# EAGLE library part MS5803 (library bschulz)
MS5803 - Minature Media Compatible Pressure Sensor Characteristics: Vcc: 1.8V ~ 3.6V IQ: 1μA (0.15μA standby) Pressure Range: 10 ~ 1300 mBar (01BA model) Pressure Resolution: 0.0012 mBar, max (01BA model) Pressure Accuracy: relative ±1.5 mBar, abs ± 1 mBar Temperature Resolution: 0.01°C Temperature Accuracy: 0.8°C Operating Temperature: -40°C to 85°C Digikey: 223-1623-5-ND (01BA) <https://www.digikey.com/product-detail/en/te-connectivity-measurement-specialties/MS580301BA01-00/223-1623-5-ND/5277628> 223-1624-5-ND (02BA) <https://www.digikey.com/product-detail/en/te-connectivity-measurement-specialties/MS580302BA01-00/223-1624-5-ND/5277629> 223-1625-5-ND (05BA) <https://www.digikey.com/product-detail/en/te-connectivity-measurement-specialties/MS580305BA01-00/223-1625-5-ND/5277630>
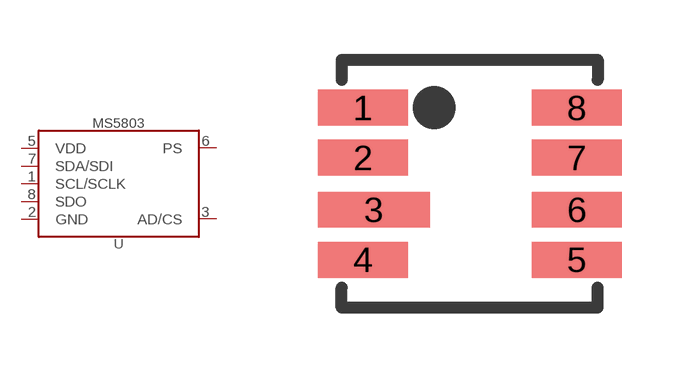
[diagram p110: symbol with the pads of MS5803; footprint MS5803]

Designator prefix U

## MS5803 (MF: Sparkfun; PROD_ID: IC-12111), MS580301BA (DIGIKEY: 223-1623-5-ND; MF: TE Connectivity; MPN: MS580301BA01-00), MS580302BA (DIGIKEY: 223-1624-5-ND; MF: TE Connectivity; MPN: MS580302BA01-00), MS580305BA (DIGIKEY: 223-1625-5-ND; MF: TE Connectivity; MPN: MS580305BA01-00)  [MS5803]
1  SCL/SCLK  in
2  GND  pwr
3  AD/CS  in
5  VDD  pwr
6  PS  in
7  SDA/SDI
8  SDO  out

## Footprint MS5803 (pad centres in mm)
smd 2.25 x 0.9: 1 -2.675,1.9; 2 -2.675,0.65; 4 -2.675,-1.9; 5 2.675,-1.9; 6 2.675,-0.65; 7 2.675,0.65; 8 2.675,1.9
smd 2.8 x 0.9: 3 -2.4,-0.65